# Altium schematic symbol library AME8520.SchLib: 1 symbol
Pins are listed as number, name and electrical type; pins without a type are passive.

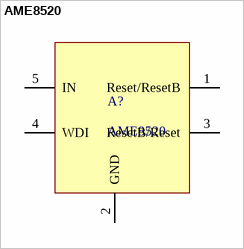
[diagram p0: symbol AME8520]

## AME8520
designator A?
Watchdog timer
footprint SOT23-5AL (SOT23, 5-Leads, Body 2.9x1.6mm, Pitch 0.95mm, Lead Span 2.8mm, IPC High Density)
pins: 1 Reset/ResetB, 2 GND, 3 ResetB/Reset, 4 WDI, 5 IN